# Altium footprint library MGMEZZ04.PcbLib: 62 footprints (part 2 of 4)
Each footprint in its own frame and in the unit in brackets; x right, y up, seen from the top. Pads: shape width x height; smd on the part's side, far side on the other; paste and mask are expansions set on the pad; w line width, h text height; cw(c..) or ccw(c..) is an arc to the next point about the centre after c.
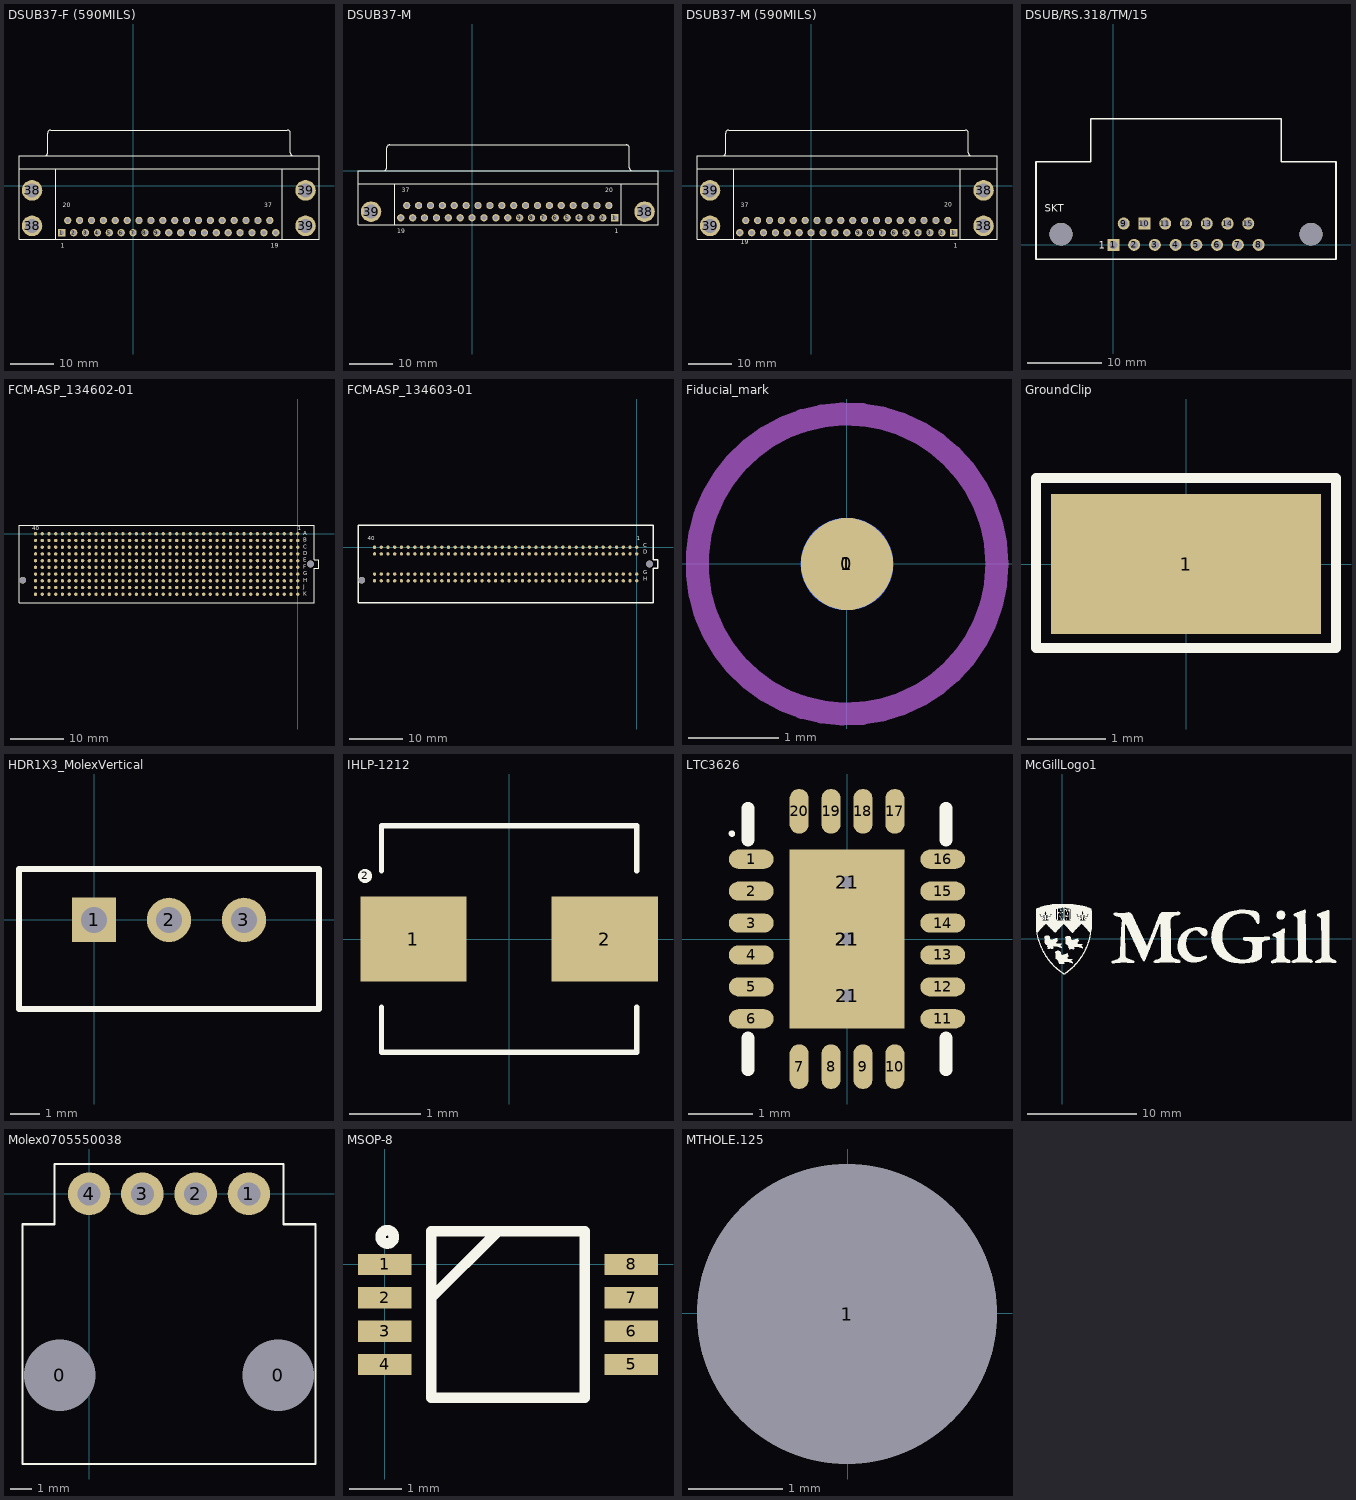
[diagram p1: the footprints below, top view; thin cyan lines are the x and y axes]

## DSUB37-F (590MILS) [mm]
pads (41):
  rect 1.69x1.69 hole 1.09: 1(-16.566,-10.92)
  round 1.69 hole 1.09: 2(-13.806,-10.92) 3(-11.046,-10.92) 4(-8.286,-10.92) 5(-5.526,-10.92) 6(-2.766,-10.92) 7(-0.006,-10.92) 8(2.754,-10.92) 9(5.514,-10.92) 10(8.274,-10.92) 11(11.034,-10.92) 12(13.794,-10.92) 13(16.554,-10.92) 14(19.314,-10.92) 15(22.074,-10.92) 16(24.834,-10.92) 17(27.594,-10.92) 18(30.354,-10.92) 19(33.114,-10.92) 20(-15.187,-8.08) 21(-12.427,-8.08) 22(-9.667,-8.08) 23(-6.907,-8.08) 24(-4.147,-8.08) 25(-1.387,-8.08) 26(1.373,-8.08) 27(4.133,-8.08) 28(6.893,-8.08) 29(9.653,-8.08) 30(12.413,-8.08) 31(15.173,-8.08) 32(17.933,-8.08) 33(20.693,-8.08) 34(23.453,-8.08) 35(26.213,-8.08) 36(28.973,-8.08) 37(31.733,-8.08)
  round 4.76 hole 3.26: 38(-23.476,-1.095) 38(-23.476,-9.348) 39(40.024,-1.095) 39(40.024,-9.348)
Top Overlay:
  lines w0.2: -26.496,3.909 -17.946,3.909 43.152,3.909 ; -20.541,6.914 ccw(c-20.541,7.609) -19.846,7.609 -19.846,12.209 ; -19.841,12.214 cw(c-19.146,12.214) -19.146,12.909 35.802,12.909 cw(c35.802,12.214) 36.497,12.214 ; -17.946,-12.5 -17.946,3.9 ; 34.602,3.9 34.602,-12.5 ; 36.502,12.209 36.502,7.609 ccw(c37.197,7.609) 37.197,6.914 ; 34.602,-12.5 -26.496,-12.5 -26.496,6.909 43.152,6.909 43.152,-12.5 34.602,-12.5
  text "37" at 30.484,-4.975 h1.02
  text "20" at -16.31,-4.975 h1.02
  text "19" at 31.989,-14.475 h1.02
  text "1" at -16.816,-14.475 h1.02

## DSUB37-M [mm] "DSUB 37Pin Male"
height 12.55
pads (41):
  rect 1.69x1.69 hole 1.09: 1(33.112,-10.92) 1(33.112,-10.92)
  round 1.69 hole 1.09: 2(30.352,-10.92) 3(27.592,-10.92) 4(24.832,-10.92) 5(22.072,-10.92) 6(19.312,-10.92) 7(16.552,-10.92) 8(13.792,-10.92) 9(11.032,-10.92) 10(8.272,-10.92) 11(5.512,-10.92) 12(2.752,-10.92) 13(-0.008,-10.92) 14(-2.768,-10.92) 15(-5.528,-10.92) 16(-8.288,-10.92) 17(-11.048,-10.92) 18(-13.808,-10.92) 19(-16.568,-10.92) 20(31.733,-8.08) 20(31.733,-8.08) 21(28.973,-8.08) 22(26.213,-8.08) 23(23.453,-8.08) 24(20.693,-8.08) 25(17.933,-8.08) 26(15.173,-8.08) 27(12.413,-8.08) 28(9.653,-8.08) 29(6.893,-8.08) 30(4.133,-8.08) 31(1.373,-8.08) 32(-1.387,-8.08) 33(-4.147,-8.08) 34(-6.907,-8.08) 35(-9.667,-8.08) 36(-12.427,-8.08) 37(-15.187,-8.08)
  round 4.76 hole 3.26: 38(40.024,-9.5) 39(-23.476,-9.5)
Top Overlay:
  lines w0.2: -26.496,-3 -17.946,-3 ; -20.541,0.005 ccw(c-20.541,0.7) -19.846,0.7 -19.846,5.3 ; -19.841,5.305 cw(c-19.146,5.305) -19.146,6 35.802,6 cw(c35.802,5.305) 36.497,5.305 ; -17.946,-12.5 -17.946,-3 ; 34.602,-3 34.602,-12.5 ; 36.502,5.3 36.502,0.7 ccw(c37.197,0.7) 37.197,0.005 ; 43.152,-3 -17.946,-3 ; 34.602,-12.5 43.152,-12.5 43.152,0 -26.496,0 -26.496,-12.5 34.602,-12.5
  text "20" at 30.861,-4.953 h1.02
  text "19" at -17.399,-14.478 h1.02
  text "1" at 33.132,-14.475 h1.02
  text "37" at -16.31,-4.975 h1.02

## DSUB37-M (590MILS) [mm]
pads (41):
  rect 1.69x1.69 hole 1.09: 1(33.112,-10.92)
  round 1.69 hole 1.09: 2(30.352,-10.92) 3(27.592,-10.92) 4(24.832,-10.92) 5(22.072,-10.92) 6(19.312,-10.92) 7(16.552,-10.92) 8(13.792,-10.92) 9(11.032,-10.92) 10(8.272,-10.92) 11(5.512,-10.92) 12(2.752,-10.92) 13(-0.008,-10.92) 14(-2.768,-10.92) 15(-5.528,-10.92) 16(-8.288,-10.92) 17(-11.048,-10.92) 18(-13.808,-10.92) 19(-16.568,-10.92) 20(31.733,-8.08) 21(28.973,-8.08) 22(26.213,-8.08) 23(23.453,-8.08) 24(20.693,-8.08) 25(17.933,-8.08) 26(15.173,-8.08) 27(12.413,-8.08) 28(9.653,-8.08) 29(6.893,-8.08) 30(4.133,-8.08) 31(1.373,-8.08) 32(-1.387,-8.08) 33(-4.147,-8.08) 34(-6.907,-8.08) 35(-9.667,-8.08) 36(-12.427,-8.08) 37(-15.187,-8.08)
  round 4.76 hole 3.26: 38(40.024,-9.348) 38(40.024,-1.095) 39(-23.476,-9.348) 39(-23.476,-1.095)
Top Overlay:
  lines w0.2: -26.496,3.909 -17.946,3.909 ; -20.541,6.914 ccw(c-20.541,7.609) -19.846,7.609 -19.846,12.209 ; -19.841,12.214 cw(c-19.146,12.214) -19.146,12.909 35.802,12.909 cw(c35.802,12.214) 36.497,12.214 ; -17.946,-12.5 -17.946,3.909 ; 34.602,3.909 34.602,-12.5 ; 36.502,12.209 36.502,7.609 ccw(c37.197,7.609) 37.197,6.914 ; 43.152,3.909 -17.946,3.909 ; 43.152,6.9 43.152,-12.5 34.602,-12.5 ; 43.152,6.909 -26.496,6.909 -26.496,-12.5 34.602,-12.5
  text "20" at 30.861,-4.953 h1.02
  text "19" at -16.383,-13.589 h1.02
  text "1" at 33.132,-14.475 h1.02
  text "37" at -16.31,-4.975 h1.02

## DSUB/RS.318/TM/15 [mil]
pads (17):
  rect 63x63 hole 42: 1(0.47,0.25) 10(163.97,112.25)
  round 63 hole 42: 2(109.47,0.25) 3(218.47,0.25) 4(327.47,0.25) 5(436.47,0.25) 6(545.47,0.25) 7(654.47,0.25) 8(763.47,0.25) 9(54.97,112.25) 11(272.97,112.25) 12(381.97,112.25) 13(490.97,112.25) 14(599.97,112.25) 15(708.97,112.25)
  round 120 hole 120: Hole29(1037.97,56.25) Hole30(-274.03,56.25)
Top Overlay:
  lines w8: -405.53,-75.25 1169.47,-75.25 1169.47,437.25 881.97,437.25 881.97,662.25 -118.03,662.25 -118.03,437.25 -405.53,437.25 -405.53,-75.25
  text "SKT" at -360.2,175.13 h37.5
  text "1" at -77.03,-19.75 h37.5
Bottom Overlay:
  text "9" at 43.08,211.63 h37.5
  text "8" at 838.08,-33.38 h37.5
  text "15" at 744.18,151.63 h37.5

## FCM-ASP_134602-01 [mil]
pads (402):
  round 25 smd: A1(0,0) A2(-50,0) A3(-100,0) A4(-150,0) A5(-200,0) A6(-250,0) A7(-300,0) A8(-350,0) A9(-400,0) A10(-450,0) A11(-500,0) A12(-550,0) A13(-600,0) A14(-650,0) A15(-700,0) A16(-750,0) A17(-800,0) A18(-850,0) A19(-900,0) A20(-950,0) A21(-1000,0) A22(-1050,0) A23(-1100,0) A24(-1150,0) A25(-1200,0) A26(-1250,0) A27(-1300,0) A28(-1350,0) A29(-1400,0) A30(-1450,0) A31(-1500,0) A32(-1550,0) A33(-1600,0) A34(-1650,0) A35(-1700,0) A36(-1750,0) A37(-1800,0) A38(-1850,0) A39(-1900,0) A40(-1950,0) B1(0,-50) B2(-50,-50) B3(-100,-50) B4(-150,-50) B5(-200,-50) B6(-250,-50) B7(-300,-50) B8(-350,-50) B9(-400,-50) B10(-450,-50) B11(-500,-50) B12(-550,-50) B13(-600,-50) B14(-650,-50) B15(-700,-50) B16(-750,-50) B17(-800,-50) B18(-850,-50) B19(-900,-50) B20(-950,-50) B21(-1000,-50) B22(-1050,-50) B23(-1100,-50) B24(-1150,-50) B25(-1200,-50) B26(-1250,-50) B27(-1300,-50) B28(-1350,-50) B29(-1400,-50) B30(-1450,-50) B31(-1500,-50) B32(-1550,-50) B33(-1600,-50) B34(-1650,-50) B35(-1700,-50) B36(-1750,-50) B37(-1800,-50) B38(-1850,-50) B39(-1900,-50) B40(-1950,-50) C1(0,-100) C2(-50,-100) C3(-100,-100) C4(-150,-100) C5(-200,-100) C6(-250,-100) C7(-300,-100) C8(-350,-100) C9(-400,-100) C10(-450,-100) C11(-500,-100) C12(-550,-100) C13(-600,-100) C14(-650,-100) C15(-700,-100) C16(-750,-100) C17(-800,-100) C18(-850,-100) C19(-900,-100) C20(-950,-100) C21(-1000,-100) C22(-1050,-100) C23(-1100,-100) C24(-1150,-100) C25(-1200,-100) C26(-1250,-100) C27(-1300,-100) C28(-1350,-100) C29(-1400,-100) C30(-1450,-100) C31(-1500,-100) C32(-1550,-100) C33(-1600,-100) C34(-1650,-100) C35(-1700,-100) C36(-1750,-100) C37(-1800,-100) C38(-1850,-100) C39(-1900,-100) C40(-1950,-100) D1(0,-150) D2(-50,-150) D3(-100,-150) D4(-150,-150) D5(-200,-150) D6(-250,-150) D7(-300,-150) D8(-350,-150) D9(-400,-150) D10(-450,-150) D11(-500,-150) D12(-550,-150) D13(-600,-150) D14(-650,-150) D15(-700,-150) D16(-750,-150) D17(-800,-150) D18(-850,-150) D19(-900,-150) D20(-950,-150) D21(-1000,-150) D22(-1050,-150) D23(-1100,-150) D24(-1150,-150) D25(-1200,-150) D26(-1250,-150) D27(-1300,-150) D28(-1350,-150) D29(-1400,-150) D30(-1450,-150) D31(-1500,-150) D32(-1550,-150) D33(-1600,-150) D34(-1650,-150) D35(-1700,-150) D36(-1750,-150) D37(-1800,-150) D38(-1850,-150) D39(-1900,-150) D40(-1950,-150) E1(0,-200) E2(-50,-200) E3(-100,-200) E4(-150,-200) E5(-200,-200) E6(-250,-200) E7(-300,-200) E8(-350,-200) E9(-400,-200) E10(-450,-200) E11(-500,-200) E12(-550,-200) E13(-600,-200) E14(-650,-200) E15(-700,-200) E16(-750,-200) E17(-800,-200) E18(-850,-200) E19(-900,-200) E20(-950,-200) E21(-1000,-200) E22(-1050,-200) E23(-1100,-200) E24(-1150,-200) E25(-1200,-200) E26(-1250,-200) E27(-1300,-200) E28(-1350,-200) E29(-1400,-200) E30(-1450,-200) E31(-1500,-200) E32(-1550,-200) E33(-1600,-200) E34(-1650,-200) E35(-1700,-200) E36(-1750,-200) E37(-1800,-200) E38(-1850,-200) E39(-1900,-200) E40(-1950,-200) F1(0,-250) F2(-50,-250) F3(-100,-250) F4(-150,-250) F5(-200,-250) F6(-250,-250) F7(-300,-250) F8(-350,-250) F9(-400,-250) F10(-450,-250) F11(-500,-250) F12(-550,-250) F13(-600,-250) F14(-650,-250) F15(-700,-250) F16(-750,-250) F17(-800,-250) F18(-850,-250) F19(-900,-250) F20(-950,-250) F21(-1000,-250) F22(-1050,-250) F23(-1100,-250) F24(-1150,-250) F25(-1200,-250) F26(-1250,-250) F27(-1300,-250) F28(-1350,-250) F29(-1400,-250) F30(-1450,-250) F31(-1500,-250) F32(-1550,-250) F33(-1600,-250) F34(-1650,-250) F35(-1700,-250) F36(-1750,-250) F37(-1800,-250) F38(-1850,-250) F39(-1900,-250) F40(-1950,-250) G1(0,-300) G2(-50,-300) G3(-100,-300) G4(-150,-300) G5(-200,-300) G6(-250,-300) G7(-300,-300) G8(-350,-300) G9(-400,-300) G10(-450,-300) G11(-500,-300) G12(-550,-300) G13(-600,-300) G14(-650,-300) G15(-700,-300) G16(-750,-300) G17(-800,-300) G18(-850,-300) G19(-900,-300) G20(-950,-300) G21(-1000,-300) G22(-1050,-300) G23(-1100,-300) G24(-1150,-300) G25(-1200,-300) G26(-1250,-300) G27(-1300,-300) G28(-1350,-300) G29(-1400,-300) G30(-1450,-300) G31(-1500,-300) G32(-1550,-300) G33(-1600,-300) G34(-1650,-300) G35(-1700,-300) G36(-1750,-300) G37(-1800,-300) G38(-1850,-300) G39(-1900,-300) G40(-1950,-300) H1(0,-350) H2(-50,-350) H3(-100,-350) H4(-150,-350) H5(-200,-350) H6(-250,-350) H7(-300,-350) H8(-350,-350) H9(-400,-350) H10(-450,-350) H11(-500,-350) H12(-550,-350) H13(-600,-350) H14(-650,-350) H15(-700,-350) H16(-750,-350) H17(-800,-350) H18(-850,-350) H19(-900,-350) H20(-950,-350) H21(-1000,-350) H22(-1050,-350) H23(-1100,-350) H24(-1150,-350) H25(-1200,-350) H26(-1250,-350) H27(-1300,-350) H28(-1350,-350) H29(-1400,-350) H30(-1450,-350) H31(-1500,-350) H32(-1550,-350) H33(-1600,-350) H34(-1650,-350) H35(-1700,-350) H36(-1750,-350) H37(-1800,-350) H38(-1850,-350) H39(-1900,-350) H40(-1950,-350) J1(0,-400) J2(-50,-400) J3(-100,-400) J4(-150,-400) J5(-200,-400) J6(-250,-400) J7(-300,-400) J8(-350,-400) J9(-400,-400) J10(-450,-400) J11(-500,-400) J12(-550,-400) J13(-600,-400) J14(-650,-400) J15(-700,-400) J16(-750,-400) J17(-800,-400) J18(-850,-400) J19(-900,-400) J20(-950,-400) J21(-1000,-400) J22(-1050,-400) J23(-1100,-400) J24(-1150,-400) J25(-1200,-400) J26(-1250,-400) J27(-1300,-400) J28(-1350,-400) J29(-1400,-400) J30(-1450,-400) J31(-1500,-400) J32(-1550,-400) J33(-1600,-400) J34(-1650,-400) J35(-1700,-400) J36(-1750,-400) J37(-1800,-400) J38(-1850,-400) J39(-1900,-400) J40(-1950,-400) K1(0,-450) K2(-50,-450) K3(-100,-450) K4(-150,-450) K5(-200,-450) K6(-250,-450) K7(-300,-450) K8(-350,-450) K9(-400,-450) K10(-450,-450) K11(-500,-450) K12(-550,-450) K13(-600,-450) K14(-650,-450) K15(-700,-450) K16(-750,-450) K17(-800,-450) K18(-850,-450) K19(-900,-450) K20(-950,-450) K21(-1000,-450) K22(-1050,-450) K23(-1100,-450) K24(-1150,-450) K25(-1200,-450) K26(-1250,-450) K27(-1300,-450) K28(-1350,-450) K29(-1400,-450) K30(-1450,-450) K31(-1500,-450) K32(-1550,-450) K33(-1600,-450) K34(-1650,-450) K35(-1700,-450) K36(-1750,-450) K37(-1800,-450) K38(-1850,-450) K39(-1900,-450) K40(-1950,-450)
  round 50 hole 50: ""(-2045,-345) ""(95,-225)
Top Overlay:
  lines w6: -2073,-514 -2073,64 123,64 123,-195 158,-195 158,-255 123,-255 123,-514 -2073,-514
  text "40" at -1975,25 h30
  text "1" at 0,25 h30
  text "A" at 40,-10 h30
  text "B" at 40,-60 h30
  text "C" at 40,-110 h30
  text "E" at 40,-210 h30
  text "D" at 40,-160 h30
  text "F" at 40,-260 h30
  text "G" at 40,-310 h30
  text "H" at 40,-360 h30
  text "J" at 40,-410 h30
  text "K" at 40,-460 h30

## FCM-ASP_134603-01 [mil] "160pin FCM connector VITA"
pads (162):
  round 25 smd: C1(0,0) C2(-50,0) C3(-100,0) C4(-150,0) C5(-200,0) C6(-250,0) C7(-300,0) C8(-350,0) C9(-400,0) C10(-450,0) C11(-500,0) C12(-550,0) C13(-600,0) C14(-650,0) C15(-700,0) C16(-750,0) C17(-800,0) C18(-850,0) C19(-900,0) C20(-950,0) C21(-1000,0) C22(-1050,0) C23(-1100,0) C24(-1150,0) C25(-1200,0) C26(-1250,0) C27(-1300,0) C28(-1350,0) C29(-1400,0) C30(-1450,0) C31(-1500,0) C32(-1550,0) C33(-1600,0) C34(-1650,0) C35(-1700,0) C36(-1750,0) C37(-1800,0) C38(-1850,0) C39(-1900,0) C40(-1950,0) D1(0,-50) D2(-50,-50) D3(-100,-50) D4(-150,-50) D5(-200,-50) D6(-250,-50) D7(-300,-50) D8(-350,-50) D9(-400,-50) D10(-450,-50) D11(-500,-50) D12(-550,-50) D13(-600,-50) D14(-650,-50) D15(-700,-50) D16(-750,-50) D17(-800,-50) D18(-850,-50) D19(-900,-50) D20(-950,-50) D21(-1000,-50) D22(-1050,-50) D23(-1100,-50) D24(-1150,-50) D25(-1200,-50) D26(-1250,-50) D27(-1300,-50) D28(-1350,-50) D29(-1400,-50) D30(-1450,-50) D31(-1500,-50) D32(-1550,-50) D33(-1600,-50) D34(-1650,-50) D35(-1700,-50) D36(-1750,-50) D37(-1800,-50) D38(-1850,-50) D39(-1900,-50) D40(-1950,-50) G1(0,-200) G2(-50,-200) G3(-100,-200) G4(-150,-200) G5(-200,-200) G6(-250,-200) G7(-300,-200) G8(-350,-200) G9(-400,-200) G10(-450,-200) G11(-500,-200) G12(-550,-200) G13(-600,-200) G14(-650,-200) G15(-700,-200) G16(-750,-200) G17(-800,-200) G18(-850,-200) G19(-900,-200) G20(-950,-200) G21(-1000,-200) G22(-1050,-200) G23(-1100,-200) G24(-1150,-200) G25(-1200,-200) G26(-1250,-200) G27(-1300,-200) G28(-1350,-200) G29(-1400,-200) G30(-1450,-200) G31(-1500,-200) G32(-1550,-200) G33(-1600,-200) G34(-1650,-200) G35(-1700,-200) G36(-1750,-200) G37(-1800,-200) G38(-1850,-200) G39(-1900,-200) G40(-1950,-200) H1(0,-250) H2(-50,-250) H3(-100,-250) H4(-150,-250) H5(-200,-250) H6(-250,-250) H7(-300,-250) H8(-350,-250) H9(-400,-250) H10(-450,-250) H11(-500,-250) H12(-550,-250) H13(-600,-250) H14(-650,-250) H15(-700,-250) H16(-750,-250) H17(-800,-250) H18(-850,-250) H19(-900,-250) H20(-950,-250) H21(-1000,-250) H22(-1050,-250) H23(-1100,-250) H24(-1150,-250) H25(-1200,-250) H26(-1250,-250) H27(-1300,-250) H28(-1350,-250) H29(-1400,-250) H30(-1450,-250) H31(-1500,-250) H32(-1550,-250) H33(-1600,-250) H34(-1650,-250) H35(-1700,-250) H36(-1750,-250) H37(-1800,-250) H38(-1850,-250) H39(-1900,-250) H40(-1950,-250)
  round 50 hole 50: ""(-2045,-245) ""(95,-125)
Top Overlay:
  lines w10: -2073,-414 -2073,164 123,164 123,-95 158,-95 158,-155 123,-155 123,-414 -2073,-414
  text "40" at -2000,50 h30
  text "1" at 0,50 h30
  text "H" at 50,-250 h30
  text "G" at 50,-200 h30
  text "D" at 50,-50 h30
  text "C" at 50,0 h30

## Fiducial_mark [mil]
pads (2):
  round 40 smd mask+20: 0(0,0)
  round 40 smd far side mask+20: 1(0,0)
Mechanical 2:
  circle w10: c0,0 r65

## GroundClip [mil] "GroundClipPoint"
height 59.84
pads (1):
  rect 135x70 smd: 1(0,0)
Top Overlay:
  lines w5: -75,-42 75,-42 75,43 -75,43 -75,-42
3D body: height 59.84, standoff 0, extent -68,-35 68,35

## HDR1X3_MolexVertical [mm]
pads (3):
  rect 1.5x1.5 hole 0.889: 1(0,0)
  round 1.5 hole 0.889: 2(2.54,0) 3(5.08,0)
Top Overlay:
  lines w0.2: -2.54,-3.023 7.62,-3.023 7.62,1.727 -2.54,1.727 -2.54,-3.023

## IHLP-1212 [mm] "Inductor"
height 2
pads (3):
  rect 1.5x1.2 smd: 1(-1.35,0) 2(1.35,0)
  round 0.2 on Top Overlay: 2(-2.032,0.889)
Top Overlay:
  lines w0.076: -1.8,-0.965 -1.8,-1.6 1.8,-1.6 1.8,-0.965 ; -1.8,0.965 -1.8,1.6 1.8,1.6 1.8,0.965
3D body: height 2, standoff 0, extent -1.905,-1.651 1.905,1.651

## LTC3626 [mm] "QFN, 20-Leads, Body 4.1x3.1mm (max), Pitch 0.50mm, IPC Medium Density"
height 0.8
pads (24):
  oval 0.7x0.3 smd: 1(-1.5,1.25) 2(-1.5,0.75) 3(-1.5,0.25) 4(-1.5,-0.25) 5(-1.5,-0.75) 6(-1.5,-1.25) 11(1.5,-1.25) 12(1.5,-0.75) 13(1.5,-0.25) 14(1.5,0.25) 15(1.5,0.75) 16(1.5,1.25)
  oval 0.3x0.7 smd: 7(-0.75,-2) 8(-0.25,-2) 9(0.25,-2) 10(0.75,-2) 17(0.75,2) 18(0.25,2) 19(-0.25,2) 20(-0.75,2)
  round 0.66 hole 0.203: 21(0,0) 21(0,-0.889) 21(0,0.889)
  rect 1.8x2.8 smd: 21(0,0)
Top Overlay:
  circle w0.051: c-1.803,1.651 r0.025
  lines w0.2: -1.55,-2.05 -1.55,-1.55 ; -1.55,1.55 -1.55,2.05 ; 1.55,-2.05 1.55,-1.55 ; 1.55,1.55 1.55,2.05
3D body: height 0.8, standoff 0.05, extent -1.55,-2.05 1.55,2.05

## McGillLogo1 [mil] "McGillLogo"
Top Overlay:
  drawing of 2700 lines, arcs and shapes, not listed

## Molex0705550038 [mil]
pads (6):
  round 118.11 hole 133.86 unplated: 0(-55.12,-340.55) 0(355.12,-340.55)
  round 80 hole 43: 1(300,0) 2(200,0) 3(100,0) 4(0,0)
Top Overlay:
  lines w4: -65,56 -65,-57 -125,-57 -125,-507 425,-507 425,-57 365,-57 365,56 -64,56
3D body: height 275, standoff -130, extent -125,-507.5 425,27.5

## MSOP10 - LT1715 [mil] "MSOP10 for  LT1715"

## MSOP-8 [mil]
pads (8):
  rect 40x16 smd: 1(0,0) 2(0,-25) 3(0,-50) 4(0,-75) 5(185,-75) 6(185,-50) 7(185,-25) 8(185,0)
Top Overlay:
  circle w7.87: c1.89,20.67 r5
  lines w7.87: 35,-25 85,25 ; 35,-100 150,-100 150,25 35,25 35,-100

## MTHOLE.125 [mil]
pads (1):
  round 125 hole 125 unplated: 1(-0.4,-0.25)